# Altium schematic symbol library Connectors.SchLib: 48 symbols
Pins are listed as number, name and electrical type; pins without a type are passive.

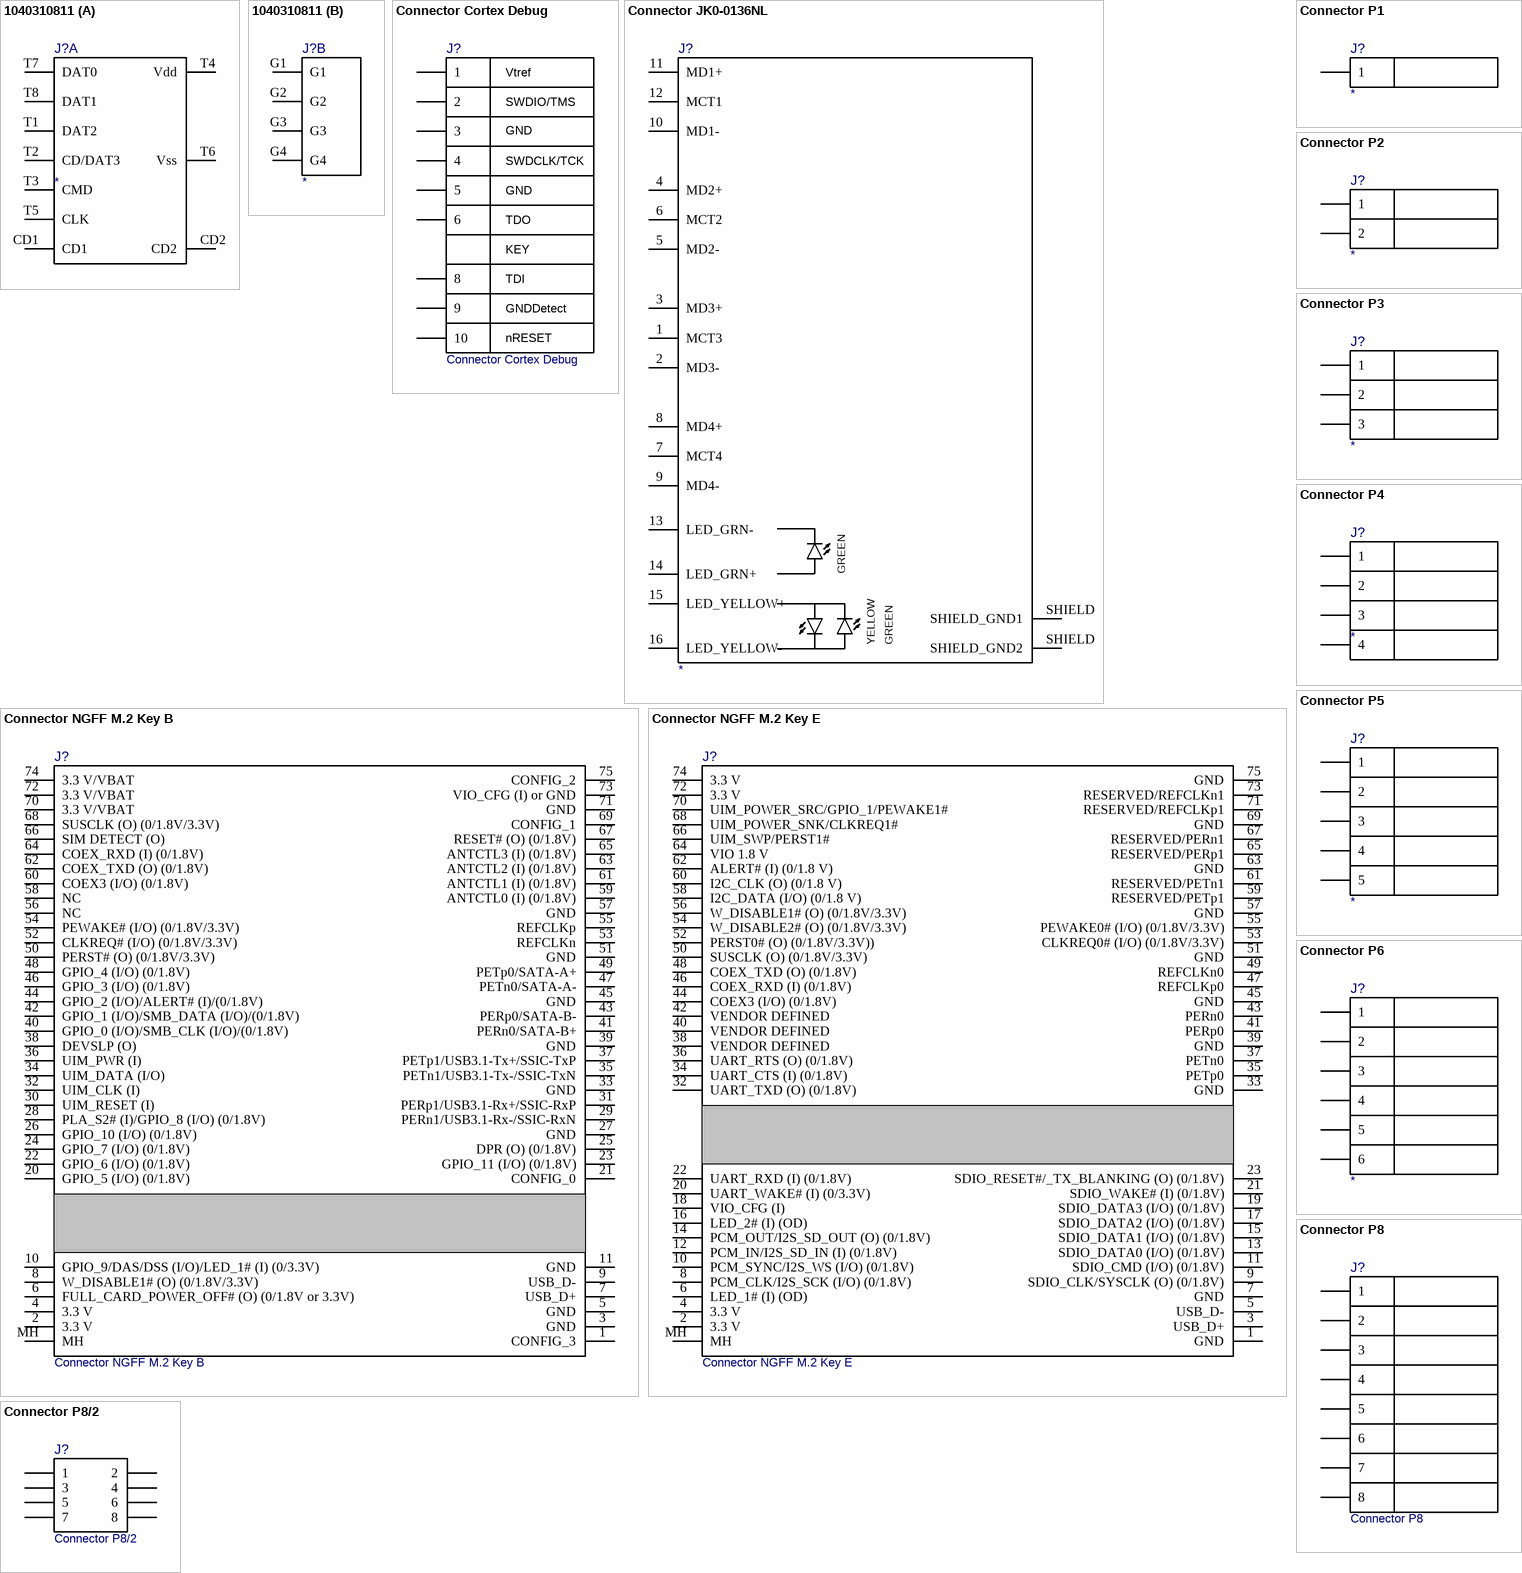
[diagram p0: symbols 1040310811 to Connector P8/2]

## 1040310811
designator J?
part A pins: CD1, CD2, T1 DAT2, T2 CD/DAT3, T3 CMD, T4 Vdd, T5 CLK, T6 Vss, T7 DAT0, T8 DAT1
part B pins: G1, G2, G3, G4

## Connector Cortex Debug
designator J?
pins: 1, 2, 3, 4, 5, 6, 8, 9, 10
text: Vtref; SWDIO/TMS; GND; SWDCLK/TCK; TDO; KEY; TDI; GNDDetect; nRESET

## Connector JK0-0136NL
designator J?
pins: 1 MCT3, 2 MD3-, 3 MD3+, 4 MD2+, 5 MD2-, 6 MCT2, 7 MCT4, 8 MD4+, 9 MD4-, 10 MD1-, 11 MD1+, 12 MCT1, 13 LED_GRN-, 14 LED_GRN+, 15 LED_YELLOW+, 16 LED_YELLOW-, SHIELD SHIELD_GND1, SHIELD SHIELD_GND2
text: GREEN; YELLOW

## Connector NGFF M.2 Key B
designator J?
pins: 1 CONFIG_3, 2 3.3 V, 3 GND, 4 3.3 V, 5 GND, 6 FULL_CARD_POWER_OFF# (O) (0/1.8V or 3.3V), 7 USB_D+, 8 W_DISABLE1# (O) (0/1.8V/3.3V), 9 USB_D-, 10 GPIO_9/DAS/DSS (I/O)/LED_1# (I) (0/3.3V), 11 GND, 20 GPIO_5 (I/O) (0/1.8V), 21 CONFIG_0, 22 GPIO_6 (I/O) (0/1.8V), 23 GPIO_11 (I/O) (0/1.8V), 24 GPIO_7 (I/O) (0/1.8V), 25 DPR (O) (0/1.8V), 26 GPIO_10 (I/O) (0/1.8V), 27 GND, 28 PLA_S2# (I)/GPIO_8 (I/O) (0/1.8V), 29 PERn1/USB3.1-Rx-/SSIC-RxN, 30 UIM_RESET (I), 31 PERp1/USB3.1-Rx+/SSIC-RxP, 32 UIM_CLK (I), 33 GND, 34 UIM_DATA (I/O), 35 PETn1/USB3.1-Tx-/SSIC-TxN, 36 UIM_PWR (I), 37 PETp1/USB3.1-Tx+/SSIC-TxP, 38 DEVSLP (O), 39 GND, 40 GPIO_0 (I/O)/SMB_CLK (I/O)/(0/1.8V), 41 PERn0/SATA-B+, 42 GPIO_1 (I/O)/SMB_DATA (I/O)/(0/1.8V), 43 PERp0/SATA-B-, 44 GPIO_2 (I/O)/ALERT# (I)/(0/1.8V), 45 GND, 46 GPIO_3 (I/O) (0/1.8V), 47 PETn0/SATA-A-, 48 GPIO_4 (I/O) (0/1.8V), 49 PETp0/SATA-A+, 50 PERST# (O) (0/1.8V/3.3V), 51 GND, 52 CLKREQ# (I/O) (0/1.8V/3.3V), 53 REFCLKn, 54 PEWAKE# (I/O) (0/1.8V/3.3V), 55 REFCLKp, 56 NC, 57 GND, 58 NC, 59 ANTCTL0 (I) (0/1.8V), 60 COEX3 (I/O) (0/1.8V), 61 ANTCTL1 (I) (0/1.8V), 62 COEX_TXD (O) (0/1.8V), 63 ANTCTL2 (I) (0/1.8V), 64 COEX_RXD (I) (0/1.8V), 65 ANTCTL3 (I) (0/1.8V), 66 SIM DETECT (O), 67 RESET# (O) (0/1.8V), 68 SUSCLK (O) (0/1.8V/3.3V), 69 CONFIG_1, 70 3.3 V/VBAT, 71 GND, 72 3.3 V/VBAT, 73 VIO_CFG (I) or GND, 74 3.3 V/VBAT, 75 CONFIG_2, MH

## Connector NGFF M.2 Key E
designator J?
pins: 1 GND, 2 3.3 V, 3 USB_D+, 4 3.3 V, 5 USB_D-, 6 LED_1# (I) (OD), 7 GND, 8 PCM_CLK/I2S_SCK (I/O) (0/1.8V), 9 SDIO_CLK/SYSCLK (O) (0/1.8V), 10 PCM_SYNC/I2S_WS (I/O) (0/1.8V), 11 SDIO_CMD (I/O) (0/1.8V), 12 PCM_IN/I2S_SD_IN (I) (0/1.8V), 13 SDIO_DATA0 (I/O) (0/1.8V), 14 PCM_OUT/I2S_SD_OUT (O) (0/1.8V), 15 SDIO_DATA1 (I/O) (0/1.8V), 16 LED_2# (I) (OD), 17 SDIO_DATA2 (I/O) (0/1.8V), 18 VIO_CFG (I), 19 SDIO_DATA3 (I/O) (0/1.8V), 20 UART_WAKE# (I) (0/3.3V), 21 SDIO_WAKE# (I) (0/1.8V), 22 UART_RXD (I) (0/1.8V), 23 SDIO_RESET#/_TX_BLANKING (O) (0/1.8V), 32 UART_TXD (O) (0/1.8V), 33 GND, 34 UART_CTS (I) (0/1.8V), 35 PETp0, 36 UART_RTS (O) (0/1.8V), 37 PETn0, 38 VENDOR DEFINED, 39 GND, 40 VENDOR DEFINED, 41 PERp0, 42 VENDOR DEFINED, 43 PERn0, 44 COEX3 (I/O) (0/1.8V), 45 GND, 46 COEX_RXD (I) (0/1.8V), 47 REFCLKp0, 48 COEX_TXD (O) (0/1.8V), 49 REFCLKn0, 50 SUSCLK (O) (0/1.8V/3.3V), 51 GND, 52 PERST0# (O) (0/1.8V/3.3V)), 53 CLKREQ0# (I/O) (0/1.8V/3.3V), 54 W_DISABLE2# (O) (0/1.8V/3.3V), 55 PEWAKE0# (I/O) (0/1.8V/3.3V), 56 W_DISABLE1# (O) (0/1.8V/3.3V), 57 GND, 58 I2C_DATA (I/O) (0/1.8 V), 59 RESERVED/PETp1, 60 I2C_CLK (O) (0/1.8 V), 61 RESERVED/PETn1, 62 ALERT# (I) (0/1.8 V), 63 GND, 64 VIO 1.8 V, 65 RESERVED/PERp1, 66 UIM_SWP/PERST1#, 67 RESERVED/PERn1, 68 UIM_POWER_SNK/CLKREQ1#, 69 GND, 70 UIM_POWER_SRC/GPIO_1/PEWAKE1#, 71 RESERVED/REFCLKp1, 72 3.3 V, 73 RESERVED/REFCLKn1, 74 3.3 V, 75 GND, MH

## Connector P1
designator J?
pins: 1

## Connector P2
designator J?
pins: 1, 2

## Connector P3
designator J?
pins: 1, 2, 3

## Connector P4
designator J?
pins: 1, 2, 3, 4

## Connector P5
designator J?
pins: 1, 2, 3, 4, 5

## Connector P6
designator J?
pins: 1, 2, 3, 4, 5, 6

## Connector P8
designator J?
pins: 1, 2, 3, 4, 5, 6, 7, 8

## Connector P8/2
designator J?
pins: 1, 2, 3, 4, 5, 6, 7, 8

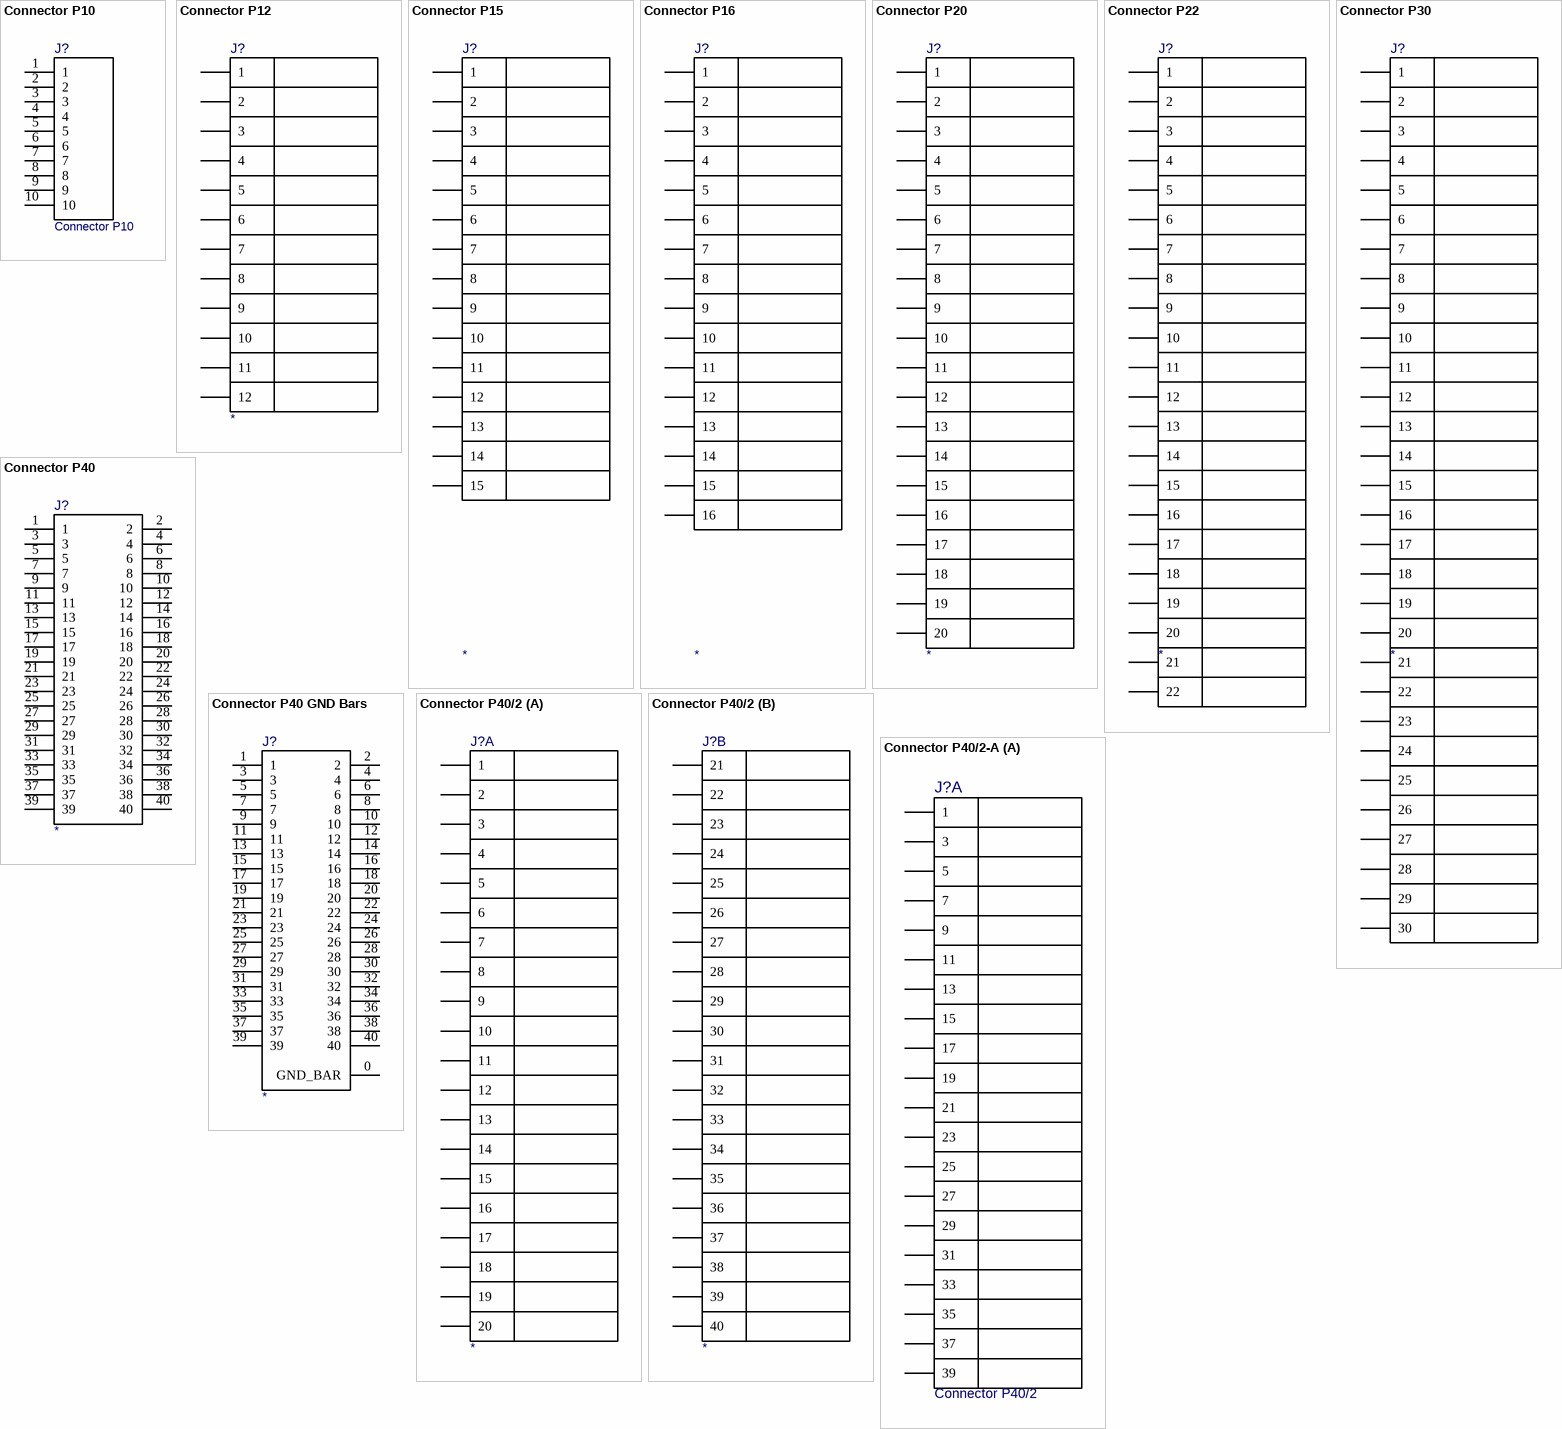
[diagram p1: symbols Connector P10 to Connector P40/2-A]

## Connector P10
designator J?
Circuit1: *; Circuit2: *; Circuit3: *; Circuit4: *; Circuit5: *; Circuit6: *; Circuit7: *; Circuit8: *; Circuit9: *; Circuit10: *
pins: 1, 2, 3, 4, 5, 6, 7, 8, 9, 10

## Connector P12
designator J?
pins: 1, 2, 3, 4, 5, 6, 7, 8, 9, 10, 11, 12

## Connector P15
designator J?
pins: 1, 2, 3, 4, 5, 6, 7, 8, 9, 10, 11, 12, 13, 14, 15

## Connector P16
designator J?
pins: 1, 2, 3, 4, 5, 6, 7, 8, 9, 10, 11, 12, 13, 14, 15, 16

## Connector P20
designator J?
pins: 1, 2, 3, 4, 5, 6, 7, 8, 9, 10, 11, 12, 13, 14, 15, 16, 17, 18, 19, 20

## Connector P22
designator J?
pins: 1, 2, 3, 4, 5, 6, 7, 8, 9, 10, 11, 12, 13, 14, 15, 16, 17, 18, 19, 20, 21, 22

## Connector P30
designator J?
pins: 1, 2, 3, 4, 5, 6, 7, 8, 9, 10, 11, 12, 13, 14, 15, 16, 17, 18, 19, 20, 21, 22, 23, 24, 25, 26, 27, 28, 29, 30

## Connector P40
designator J?
pins: 1, 2, 3, 4, 5, 6, 7, 8, 9, 10, 11, 12, 13, 14, 15, 16, 17, 18, 19, 20, 21, 22, 23, 24, 25, 26, 27, 28, 29, 30, 31, 32, 33, 34, 35, 36, 37, 38, 39, 40

## Connector P40 GND Bars
designator J?
pins: 0 GND_BAR, 1, 2, 3, 4, 5, 6, 7, 8, 9, 10, 11, 12, 13, 14, 15, 16, 17, 18, 19, 20, 21, 22, 23, 24, 25, 26, 27, 28, 29, 30, 31, 32, 33, 34, 35, 36, 37, 38, 39, 40

## Connector P40/2
designator J?
part A pins: 1, 2, 3, 4, 5, 6, 7, 8, 9, 10, 11, 12, 13, 14, 15, 16, 17, 18, 19, 20
part B pins: 21, 22, 23, 24, 25, 26, 27, 28, 29, 30, 31, 32, 33, 34, 35, 36, 37, 38, 39, 40

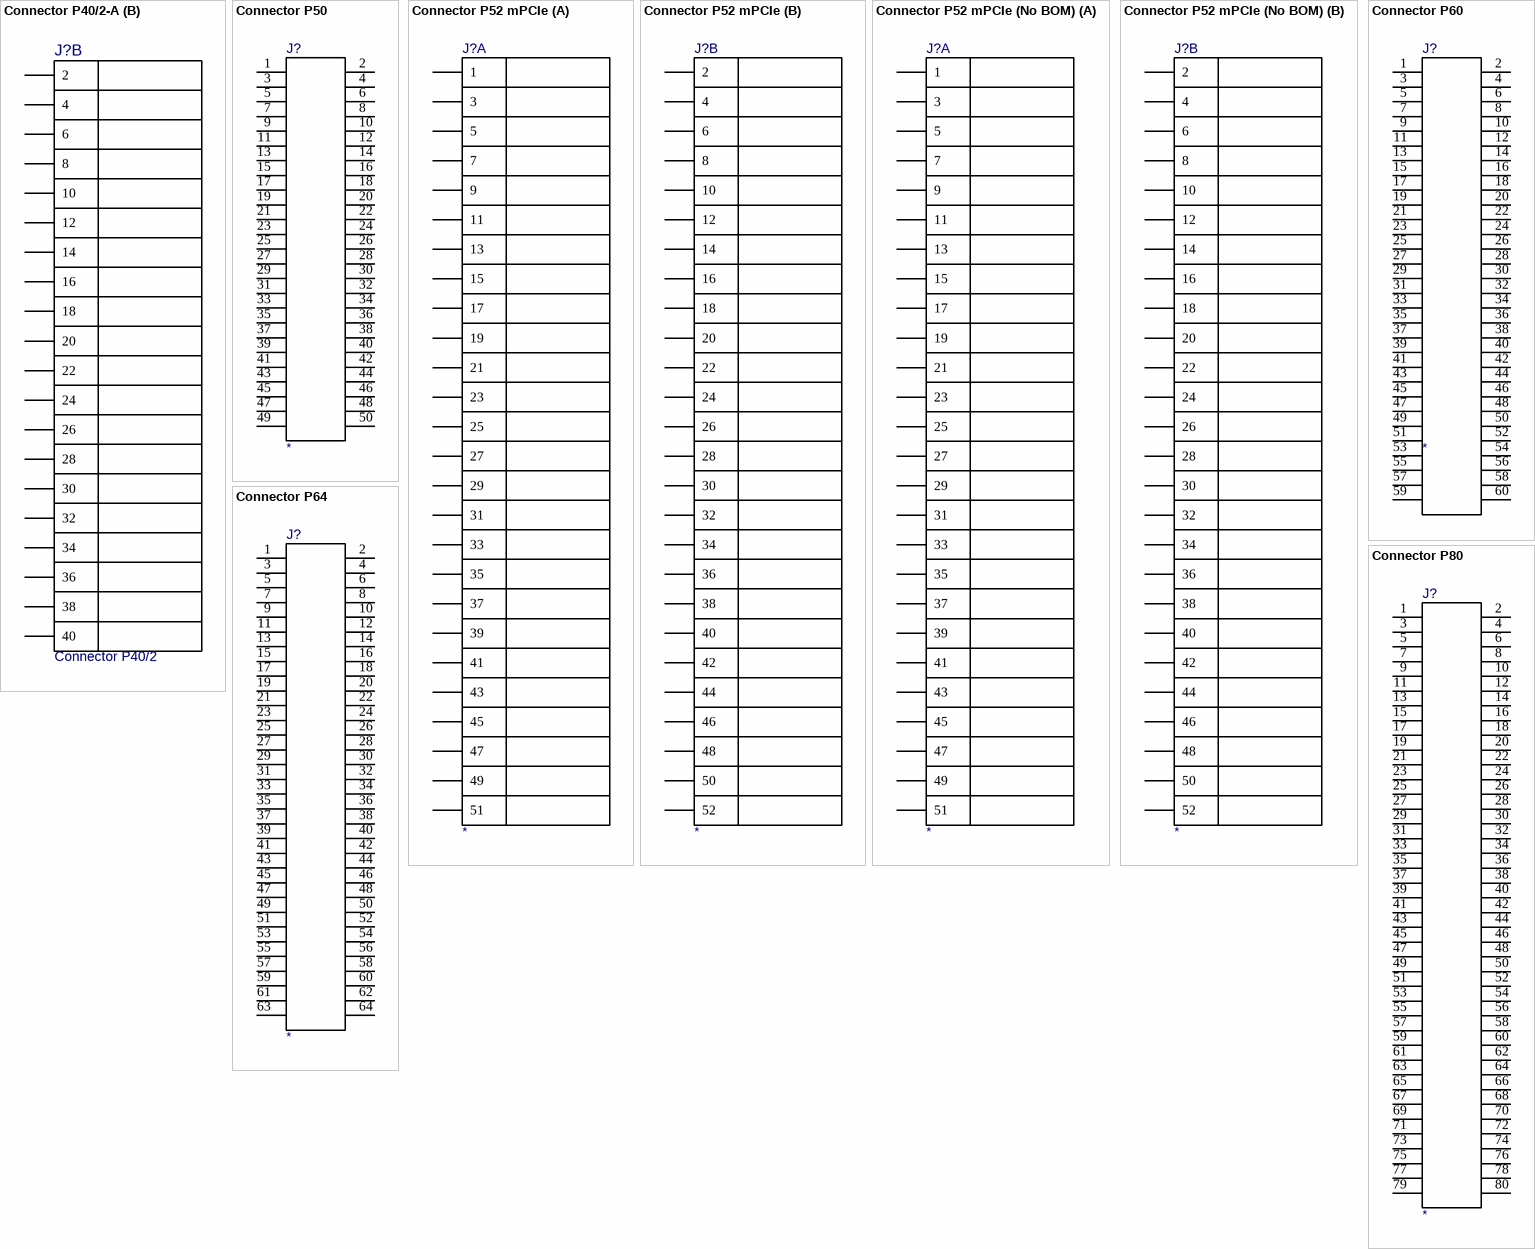
[diagram p2: symbols Connector P40/2-A to Connector P80]

## Connector P40/2-A
designator J?, comment Connector P40/2
part A pins: 1, 3, 5, 7, 9, 11, 13, 15, 17, 19, 21, 23, 25, 27, 29, 31, 33, 35, 37, 39
part B pins: 2, 4, 6, 8, 10, 12, 14, 16, 18, 20, 22, 24, 26, 28, 30, 32, 34, 36, 38, 40

## Connector P50
designator J?
pins: 1, 2, 3, 4, 5, 6, 7, 8, 9, 10, 11, 12, 13, 14, 15, 16, 17, 18, 19, 20, 21, 22, 23, 24, 25, 26, 27, 28, 29, 30, 31, 32, 33, 34, 35, 36, 37, 38, 39, 40, 41, 42, 43, 44, 45, 46, 47, 48, 49, 50

## Connector P52 mPCIe
designator J?
part A pins: 1, 3, 5, 7, 9, 11, 13, 15, 17, 19, 21, 23, 25, 27, 29, 31, 33, 35, 37, 39, 41, 43, 45, 47, 49, 51
part B pins: 2, 4, 6, 8, 10, 12, 14, 16, 18, 20, 22, 24, 26, 28, 30, 32, 34, 36, 38, 40, 42, 44, 46, 48, 50, 52

## Connector P52 mPCIe (No BOM)
designator J?  (no BOM)
part A pins: 1, 3, 5, 7, 9, 11, 13, 15, 17, 19, 21, 23, 25, 27, 29, 31, 33, 35, 37, 39, 41, 43, 45, 47, 49, 51
part B pins: 2, 4, 6, 8, 10, 12, 14, 16, 18, 20, 22, 24, 26, 28, 30, 32, 34, 36, 38, 40, 42, 44, 46, 48, 50, 52

## Connector P60
designator J?
pins: 1, 2, 3, 4, 5, 6, 7, 8, 9, 10, 11, 12, 13, 14, 15, 16, 17, 18, 19, 20, 21, 22, 23, 24, 25, 26, 27, 28, 29, 30, 31, 32, 33, 34, 35, 36, 37, 38, 39, 40, 41, 42, 43, 44, 45, 46, 47, 48, 49, 50, 51, 52, 53, 54, 55, 56, 57, 58, 59, 60

## Connector P64
designator J?
pins: 1, 2, 3, 4, 5, 6, 7, 8, 9, 10, 11, 12, 13, 14, 15, 16, 17, 18, 19, 20, 21, 22, 23, 24, 25, 26, 27, 28, 29, 30, 31, 32, 33, 34, 35, 36, 37, 38, 39, 40, 41, 42, 43, 44, 45, 46, 47, 48, 49, 50, 51, 52, 53, 54, 55, 56, 57, 58, 59, 60, 61, 62, 63, 64

## Connector P80
designator J?
pins: 1, 2, 3, 4, 5, 6, 7, 8, 9, 10, 11, 12, 13, 14, 15, 16, 17, 18, 19, 20, 21, 22, 23, 24, 25, 26, 27, 28, 29, 30, 31, 32, 33, 34, 35, 36, 37, 38, 39, 40, 41, 42, 43, 44, 45, 46, 47, 48, 49, 50, 51, 52, 53, 54, 55, 56, 57, 58, 59, 60, 61, 62, 63, 64, 65, 66, 67, 68, 69, 70, 71, 72, 73, 74, 75, 76, 77, 78, 79, 80

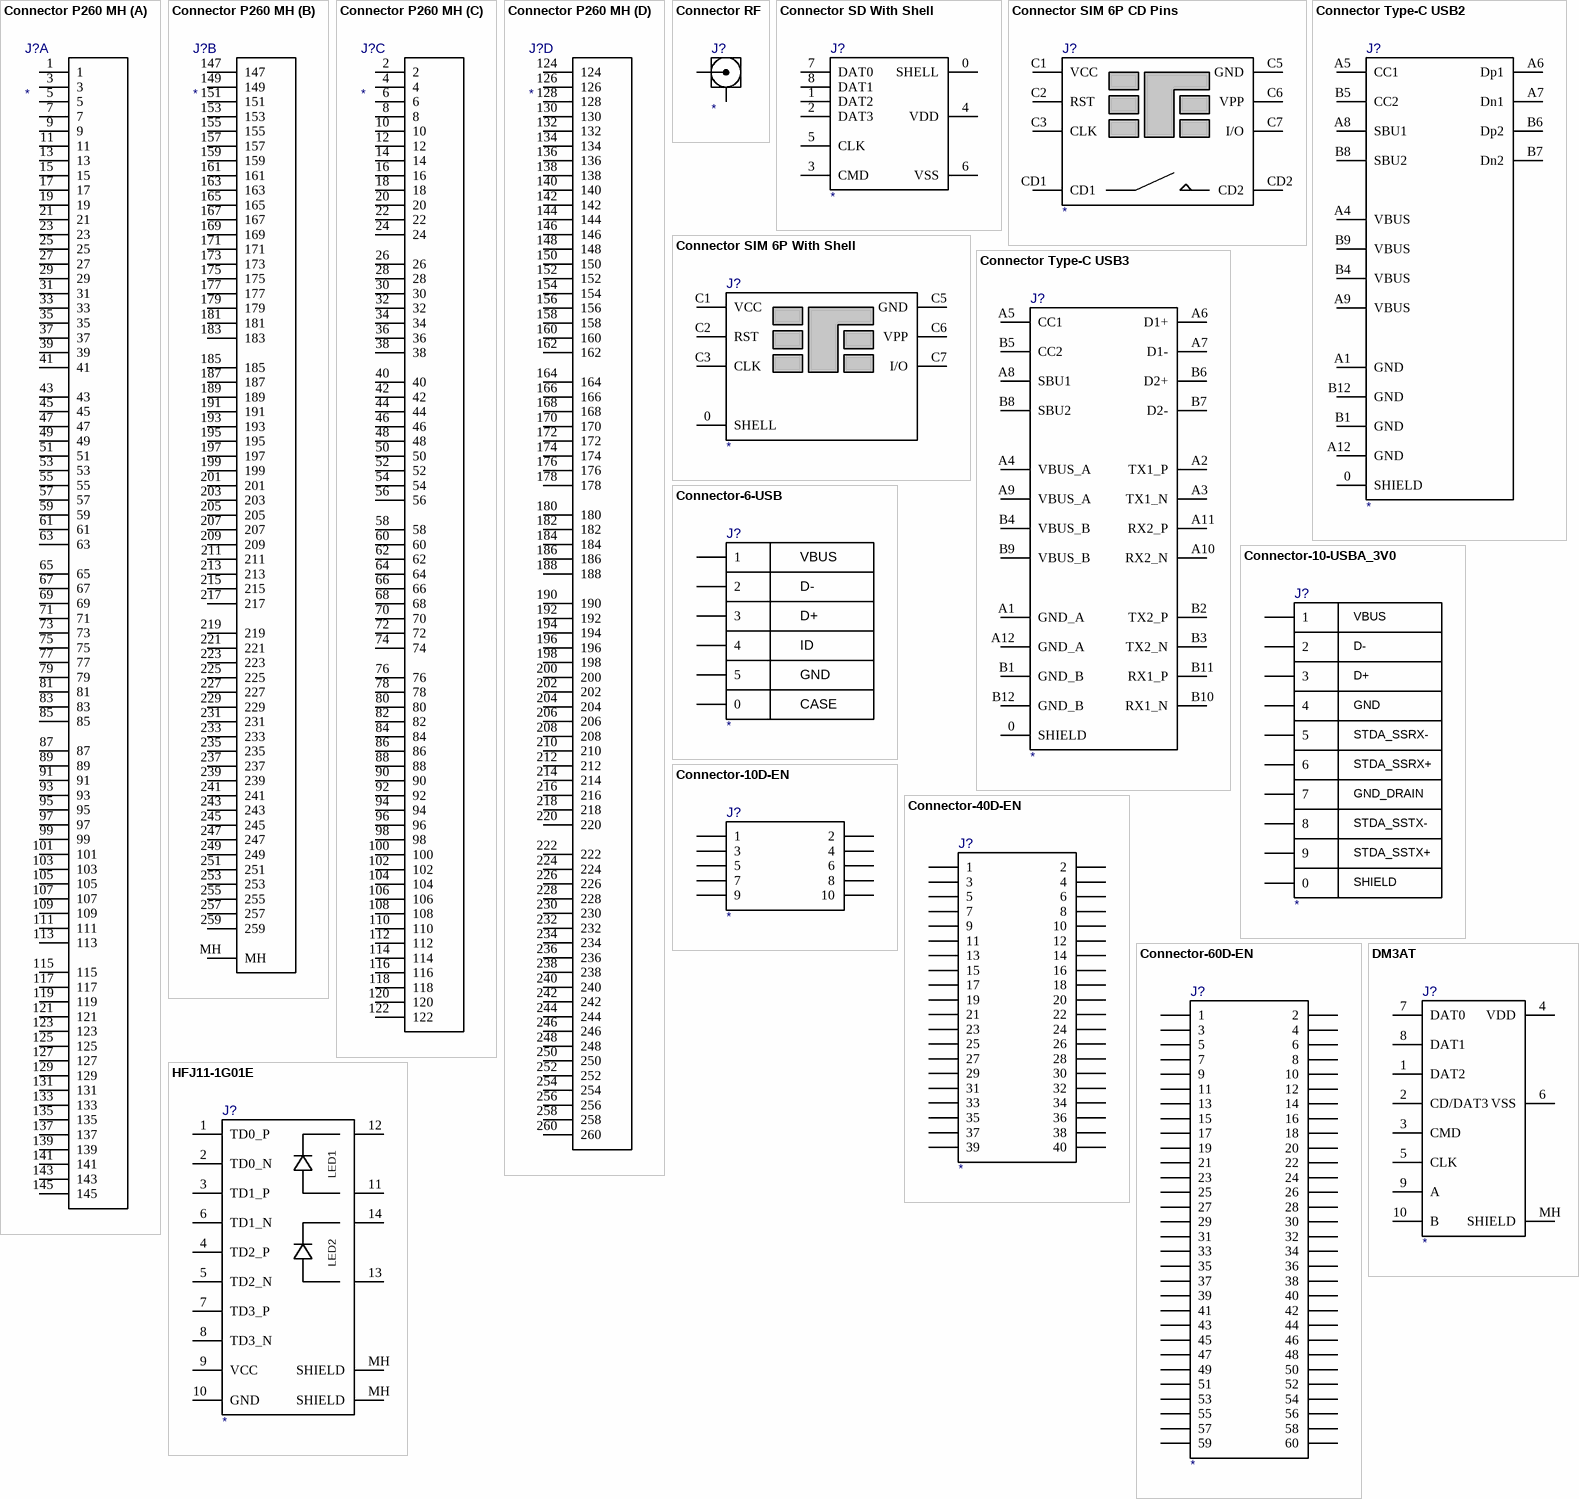
[diagram p3: symbols Connector P260 MH to HFJ11-1G01E]

## Connector P260 MH
designator J?
part A pins: 1, 3, 5, 7, 9, 11, 13, 15, 17, 19, 21, 23, 25, 27, 29, 31, 33, 35, 37, 39, 41, 43, 45, 47, 49, 51, 53, 55, 57, 59, 61, 63, 65, 67, 69, 71, 73, 75, 77, 79, 81, 83, 85, 87, 89, 91, 93, 95, 97, 99, 101, 103, 105, 107, 109, 111, 113, 115, 117, 119, 121, 123, 125, 127, 129, 131, 133, 135, 137, 139, 141, 143, 145
part B pins: 147, 149, 151, 153, 155, 157, 159, 161, 163, 165, 167, 169, 171, 173, 175, 177, 179, 181, 183, 185, 187, 189, 191, 193, 195, 197, 199, 201, 203, 205, 207, 209, 211, 213, 215, 217, 219, 221, 223, 225, 227, 229, 231, 233, 235, 237, 239, 241, 243, 245, 247, 249, 251, 253, 255, 257, 259, MH
part C pins: 2, 4, 6, 8, 10, 12, 14, 16, 18, 20, 22, 24, 26, 28, 30, 32, 34, 36, 38, 40, 42, 44, 46, 48, 50, 52, 54, 56, 58, 60, 62, 64, 66, 68, 70, 72, 74, 76, 78, 80, 82, 84, 86, 88, 90, 92, 94, 96, 98, 100, 102, 104, 106, 108, 110, 112, 114, 116, 118, 120, 122
part D pins: 124, 126, 128, 130, 132, 134, 136, 138, 140, 142, 144, 146, 148, 150, 152, 154, 156, 158, 160, 162, 164, 166, 168, 170, 172, 174, 176, 178, 180, 182, 184, 186, 188, 190, 192, 194, 196, 198, 200, 202, 204, 206, 208, 210, 212, 214, 216, 218, 220, 222, 224, 226, 228, 230, 232, 234, 236, 238, 240, 242, 244, 246, 248, 250, 252, 254, 256, 258, 260

## Connector RF
designator J?
pins: 1, 2

## Connector SD With Shell
designator J?
pins: 0 SHELL, 1 DAT2, 2 DAT3, 3 CMD, 4 VDD, 5 CLK, 6 VSS, 7 DAT0, 8 DAT1

## Connector SIM 6P CD Pins
designator J?
pins: C1 VCC, C2 RST, C3 CLK, C5 GND, C6 VPP, C7 I/O, CD1, CD2

## Connector SIM 6P With Shell
designator J?
pins: 0 SHELL, C1 VCC, C2 RST, C3 CLK, C5 GND, C6 VPP, C7 I/O

## Connector Type-C USB2
designator J?
pins: 0 SHIELD, A1 GND, A4 VBUS, A5 CC1, A6 Dp1, A7 Dn1, A8 SBU1, A9 VBUS, A12 GND, B1 GND, B4 VBUS, B5 CC2, B6 Dp2, B7 Dn2, B8 SBU2, B9 VBUS, B12 GND

## Connector Type-C USB3
designator J?
pins: 0 SHIELD, A1 GND_A, A2 TX1_P, A3 TX1_N, A4 VBUS_A, A5 CC1, A6 D1+, A7 D1-, A8 SBU1, A9 VBUS_A, A10 RX2_N, A11 RX2_P, A12 GND_A, B1 GND_B, B2 TX2_P, B3 TX2_N, B4 VBUS_B, B5 CC2, B6 D2+, B7 D2-, B8 SBU2, B9 VBUS_B, B10 RX1_N, B11 RX1_P, B12 GND_B

## Connector-6-USB
designator J?
pins: 0, 1, 2, 3, 4, 5
text: VBUS; D-; D+; ID; GND; CASE

## Connector-10-USBA_3V0
designator J?
pins: 0, 1, 2, 3, 4, 5, 6, 7, 8, 9
text: VBUS; D-; D+; GND; STDA_SSRX-; STDA_SSRX+; GND_DRAIN; STDA_SSTX-; STDA_SSTX+; SHIELD

## Connector-10D-EN
designator J?
pins: 1, 2, 3, 4, 5, 6, 7, 8, 9, 10

## Connector-40D-EN
designator J?
pins: 1, 2, 3, 4, 5, 6, 7, 8, 9, 10, 11, 12, 13, 14, 15, 16, 17, 18, 19, 20, 21, 22, 23, 24, 25, 26, 27, 28, 29, 30, 31, 32, 33, 34, 35, 36, 37, 38, 39, 40

## Connector-60D-EN
designator J?
pins: 1, 2, 3, 4, 5, 6, 7, 8, 9, 10, 11, 12, 13, 14, 15, 16, 17, 18, 19, 20, 21, 22, 23, 24, 25, 26, 27, 28, 29, 30, 31, 32, 33, 34, 35, 36, 37, 38, 39, 40, 41, 42, 43, 44, 45, 46, 47, 48, 49, 50, 51, 52, 53, 54, 55, 56, 57, 58, 59, 60

## DM3AT
designator J?
pins: 1 DAT2, 2 CD/DAT3, 3 CMD, 4 VDD, 5 CLK, 6 VSS, 7 DAT0, 8 DAT1, 9 A, 10 B, MH SHIELD

## HFJ11-1G01E
designator J?
pins: 1 TD0_P, 2 TD0_N, 3 TD1_P, 4 TD2_P, 5 TD2_N, 6 TD1_N, 7 TD3_P, 8 TD3_N, 9 VCC, 10 GND, 11 A1, 12 K1, 13 A2, 14 K2, MH SHIELD, MH SHIELD
text: LED1; LED2

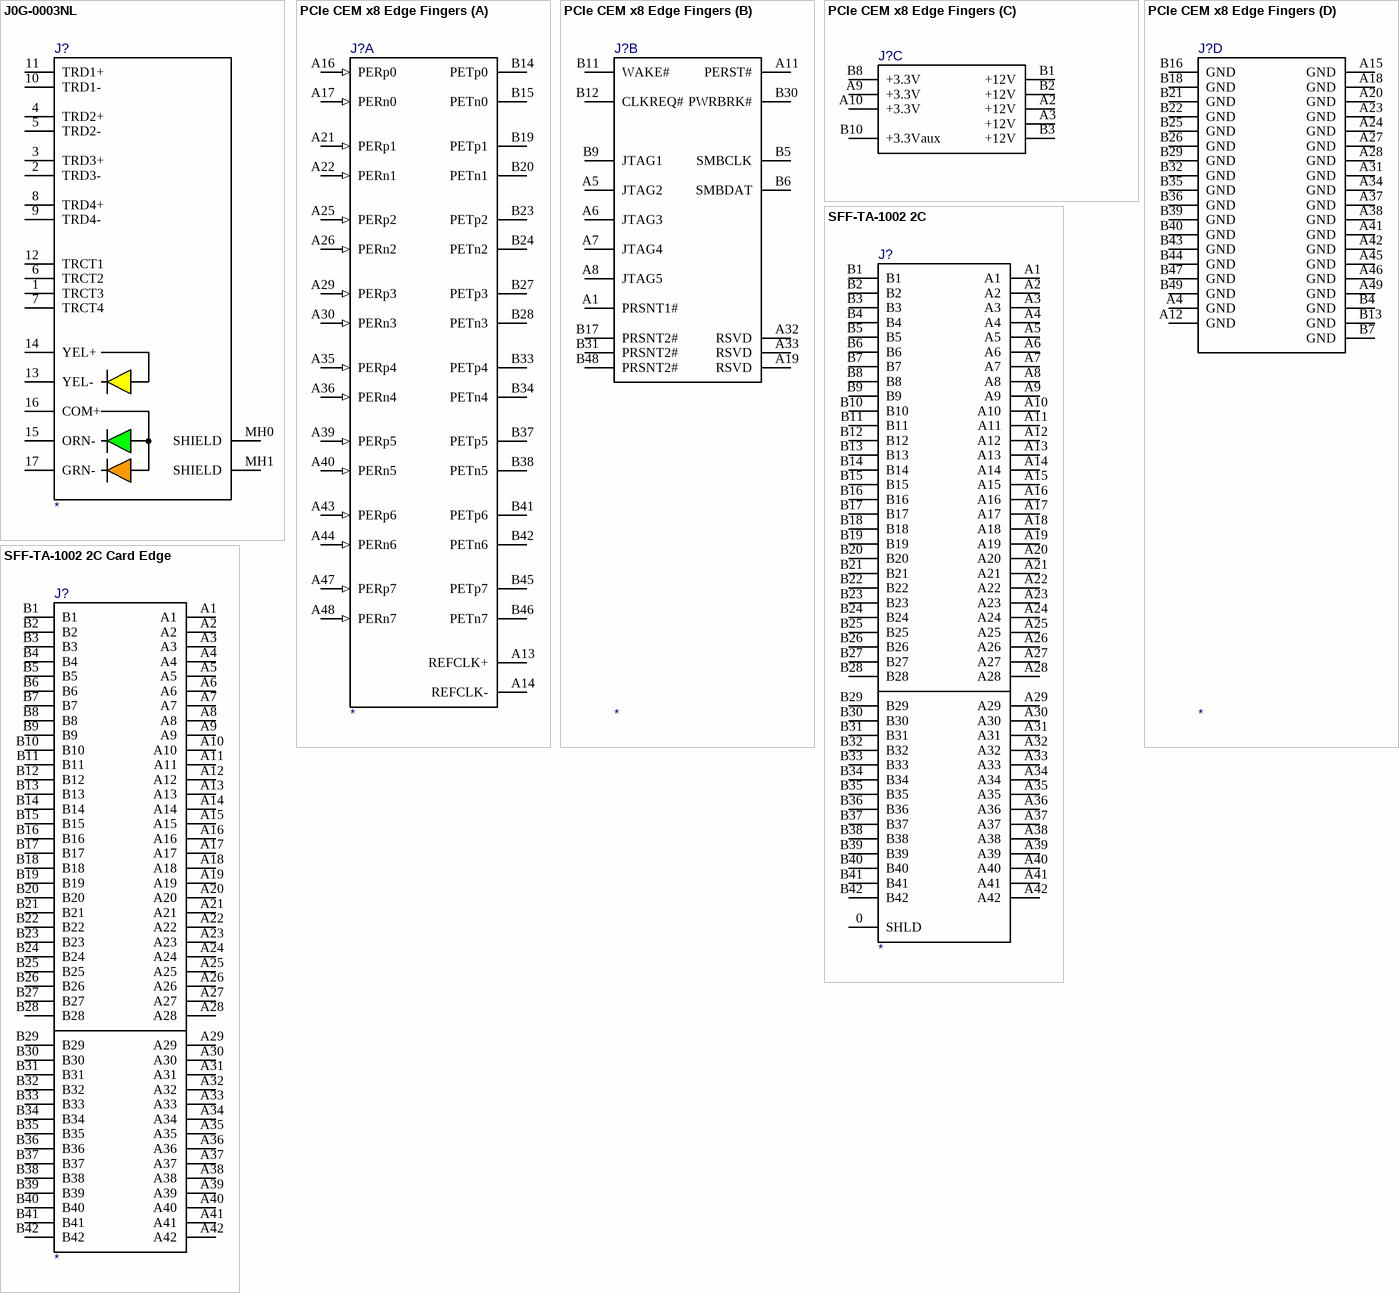
[diagram p4: symbols J0G-0003NL to SFF-TA-1002 2C Card Edge]

## J0G-0003NL
designator J?
pins: 1 TRCT3, 2 TRD3-, 3 TRD3+, 4 TRD2+, 5 TRD2-, 6 TRCT2, 7 TRCT4, 8 TRD4+, 9 TRD4-, 10 TRD1-, 11 TRD1+, 12 TRCT1, 13 YEL-, 14 YEL+, 15 ORN-, 16 COM+, 17 GRN-, MH0 SHIELD, MH1 SHIELD

## PCIe CEM x8 Edge Fingers
designator J?
part A pins: A13 REFCLK+, A14 REFCLK-, A16 PERp0 (in), A17 PERn0 (in), A21 PERp1 (in), A22 PERn1 (in), A25 PERp2 (in), A26 PERn2 (in), A29 PERp3 (in), A30 PERn3 (in), A35 PERp4 (in), A36 PERn4 (in), A39 PERp5 (in), A40 PERn5 (in), A43 PERp6 (in), A44 PERn6 (in), A47 PERp7 (in), A48 PERn7 (in), B14 PETp0, B15 PETn0, B19 PETp1, B20 PETn1, B23 PETp2, B24 PETn2, B27 PETp3, B28 PETn3, B33 PETp4, B34 PETn4, B37 PETp5, B38 PETn5, B41 PETp6, B42 PETn6, B45 PETp7, B46 PETn7
part B pins: A1 PRSNT1#, A5 JTAG2, A6 JTAG3, A7 JTAG4, A8 JTAG5, A11 PERST#, A19 RSVD, A32 RSVD, A33 RSVD, B5 SMBCLK, B6 SMBDAT, B9 JTAG1, B11 WAKE#, B12 CLKREQ#, B17 PRSNT2#, B30 PWRBRK#, B31 PRSNT2#, B48 PRSNT2#
part C pins: A2 +12V, A3 +12V, A9 +3.3V, A10 +3.3V, B1 +12V, B2 +12V, B3 +12V, B8 +3.3V, B10 +3.3Vaux
part D pins: A4 GND, A12 GND, A15 GND, A18 GND, A20 GND, A23 GND, A24 GND, A27 GND, A28 GND, A31 GND, A34 GND, A37 GND, A38 GND, A41 GND, A42 GND, A45 GND, A46 GND, A49 GND, B4 GND, B7 GND, B13 GND, B16 GND, B18 GND, B21 GND, B22 GND, B25 GND, B26 GND, B29 GND, B32 GND, B35 GND, B36 GND, B39 GND, B40 GND, B43 GND, B44 GND, B47 GND, B49 GND

## SFF-TA-1002 2C
designator J?
pins: 0 SHLD, A1, A2, A3, A4, A5, A6, A7, A8, A9, A10, A11, A12, A13, A14, A15, A16, A17, A18, A19, A20, A21, A22, A23, A24, A25, A26, A27, A28, A29, A30, A31, A32, A33, A34, A35, A36, A37, A38, A39, A40, A41, A42, B1, B2, B3, B4, B5, B6, B7, B8, B9, B10, B11, B12, B13, B14, B15, B16, B17, B18, B19, B20, B21, B22, B23, B24, B25, B26, B27, B28, B29, B30, B31, B32, B33, B34, B35, B36, B37, B38, B39, B40, B41, B42

## SFF-TA-1002 2C Card Edge
designator J?  (no BOM)
pins: A1, A2, A3, A4, A5, A6, A7, A8, A9, A10, A11, A12, A13, A14, A15, A16, A17, A18, A19, A20, A21, A22, A23, A24, A25, A26, A27, A28, A29, A30, A31, A32, A33, A34, A35, A36, A37, A38, A39, A40, A41, A42, B1, B2, B3, B4, B5, B6, B7, B8, B9, B10, B11, B12, B13, B14, B15, B16, B17, B18, B19, B20, B21, B22, B23, B24, B25, B26, B27, B28, B29, B30, B31, B32, B33, B34, B35, B36, B37, B38, B39, B40, B41, B42